# EAGLE library part CH7001 (library chrontel)
VGA to NTSC/PAL Encoder
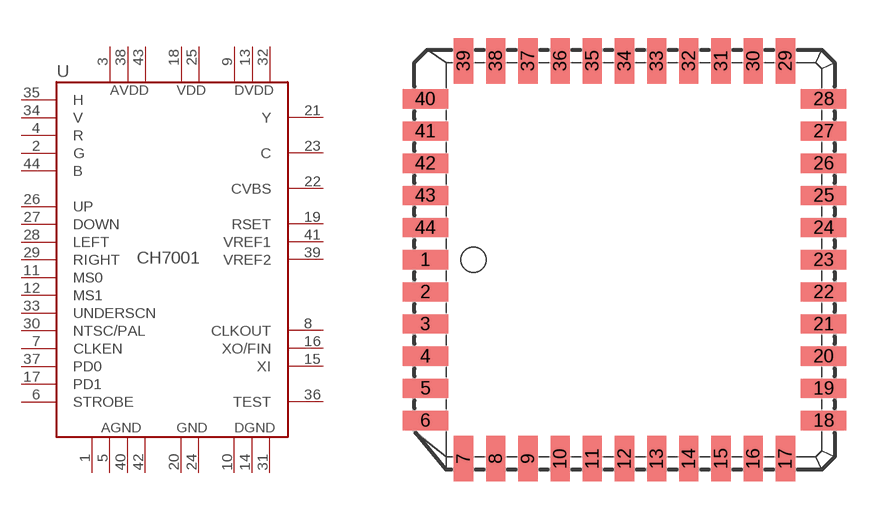
[diagram p1: symbol with the pads of PLCC44; footprint PLCC44]

Designator prefix U

## CH7001  [PLCC44]
1  AGND  in
2  G  in
3  AVDD  in
4  R  in
5  AGND  in
6  STROBE  in
7  CLKEN  in
8  CLKOUT  out
9  DVDD  in
10  DGND  in
11  MS0  in
12  MS1  in
13  DVDD  in
14  DGND  in
15  XI  in
16  XO/FIN  in
17  PD1  in
18  VDD  in
19  RSET  out
20  GND  in
21  Y  out
22  CVBS  out
23  C  out
24  GND  in
25  VDD  in
26  UP  in
27  DOWN  in
28  LEFT  in
29  RIGHT  in
30  NTSC/PAL  in
31  DGND  in
32  DVDD  in
33  UNDERSCN  in
34  V  in
35  H  in
36  TEST  in
37  PD0  in
38  AVDD  in
39  VREF2  out
40  AGND  in
41  VREF1  out
42  AGND  in
43  AVDD  in
44  B  in

## Footprint PLCC44 (pad centres in mm)
smd 1.8 x 0.76: 1 -7.86,0; 2 -7.86,-1.27; 3 -7.86,-2.54; 4 -7.86,-3.81; 5 -7.86,-5.08; 6 -7.86,-6.35; 18 7.86,-6.35; 19 7.86,-5.08; 20 7.86,-3.81; 21 7.86,-2.54; 22 7.86,-1.27; 23 7.86,0; 24 7.86,1.27; 25 7.86,2.54; 26 7.86,3.81; 27 7.86,5.08; 28 7.86,6.35; 40 -7.86,6.35; 41 -7.86,5.08; 42 -7.86,3.81; 43 -7.86,2.54; 44 -7.86,1.27
smd 0.76 x 1.8: 7 -6.35,-7.86; 8 -5.08,-7.86; 9 -3.81,-7.86; 10 -2.54,-7.86; 11 -1.27,-7.86; 12 0,-7.86; 13 1.27,-7.86; 14 2.54,-7.86; 15 3.81,-7.86; 16 5.08,-7.86; 17 6.35,-7.86; 29 6.35,7.86; 30 5.08,7.86; 31 3.81,7.86; 32 2.54,7.86; 33 1.27,7.86; 34 0,7.86; 35 -1.27,7.86; 36 -2.54,7.86; 37 -3.81,7.86; 38 -5.08,7.86; 39 -6.35,7.86